# EAGLE library part UPS051 (library unipac)
UPS051 The UPS051 is a digital interface IC for Unipac's small TFT COG LCD panels. It accepts sync and digital data one subpixel at a time and outputs the appropriate analog voltages and timing signals to the LCD.
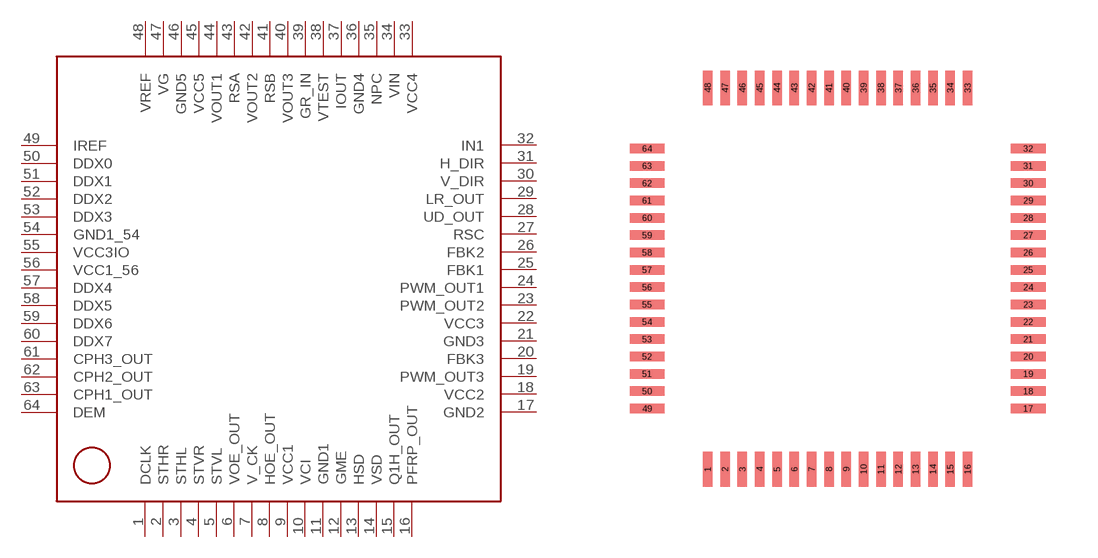
[diagram p0: symbol with the pads of LQFP64; footprint LQFP64]

Designator prefix -

## UPS051LQFP64  [LQFP64]
1  DCLK  in
2  STHR  out
3  STHL  out
4  STVR  out
5  STVL  out
6  VOE_OUT  out
7  V_CK  out
8  HOE_OUT  out
9  VCC1  pwr
10  VCI  in
11  GND1  pwr
12  GME  in
13  HSD  in
14  VSD  in
15  Q1H_OUT  out
16  PFRP_OUT  out
17  GND2  pwr
18  VCC2  pwr
19  PWM_OUT3  out
20  FBK3  in
21  GND3  pwr
22  VCC3  pwr
23  PWM_OUT2  out
24  PWM_OUT1  out
25  FBK1  in
26  FBK2  in
27  RSC  in
28  UD_OUT  out
29  LR_OUT  out
30  V_DIR  in
31  H_DIR  in
32  IN1  in
33  VCC4  pwr
34  VIN  in
35  NPC  in
36  GND4  pwr
37  IOUT  out
38  VTEST  in
39  GR_IN  in
40  VOUT3  out
41  RSB  in
42  VOUT2  out
43  RSA  in
44  VOUT1  out
45  VCC5  pwr
46  GND5  pwr
47  VG  in
48  VREF  in
49  IREF  in
50  DDX0  in
51  DDX1  in
52  DDX2  in
53  DDX3  in
54  GND1_54  pwr
55  VCC3IO  pwr
56  VCC1_56  pwr
57  DDX4  in
58  DDX5  in
59  DDX6  in
60  DDX7  in
61  CPH3_OUT  out
62  CPH2_OUT  out
63  CPH1_OUT  out
64  DEM  in

## Footprint LQFP64 (pad centres in mm)
LQFP64
smd 0.27 x 1: 1 -24.65,9.65; 2 -24.15,9.65; 3 -23.65,9.65; 4 -23.15,9.65; 5 -22.65,9.65; 6 -22.15,9.65; 7 -21.65,9.65; 8 -21.15,9.65; 9 -20.65,9.65; 10 -20.15,9.65; 11 -19.65,9.65; 12 -19.15,9.65; 13 -18.65,9.65; 14 -18.15,9.65; 15 -17.65,9.65; 16 -17.15,9.65; 33 -17.15,20.65; 34 -17.65,20.65; 35 -18.15,20.65; 36 -18.65,20.65; 37 -19.15,20.65; 38 -19.65,20.65; 39 -20.15,20.65; 40 -20.65,20.65; 41 -21.15,20.65; 42 -21.65,20.65; 43 -22.15,20.65; 44 -22.65,20.65; 45 -23.15,20.65; 46 -23.65,20.65; 47 -24.15,20.65; 48 -24.65,20.65
smd 1 x 0.27: 17 -15.4,11.4; 18 -15.4,11.9; 19 -15.4,12.4; 20 -15.4,12.9; 21 -15.4,13.4; 22 -15.4,13.9; 23 -15.4,14.4; 24 -15.4,14.9; 25 -15.4,15.4; 26 -15.4,15.9; 27 -15.4,16.4; 28 -15.4,16.9; 29 -15.4,17.4; 30 -15.4,17.9; 31 -15.4,18.4; 32 -15.4,18.9; 49 -26.4,11.4; 50 -26.4,11.9; 51 -26.4,12.4; 52 -26.4,12.9; 53 -26.4,13.4; 54 -26.4,13.9; 55 -26.4,14.4; 56 -26.4,14.9; 57 -26.4,15.4; 58 -26.4,15.9; 59 -26.4,16.4; 60 -26.4,16.9; 61 -26.4,17.4; 62 -26.4,17.9; 63 -26.4,18.4; 64 -26.4,18.9